# Altium footprint library PCB.PcbLib: 60 footprints (part 1 of 4)
Each footprint in its own frame and in the unit in brackets; x right, y up, seen from the top. Pads: shape width x height; smd on the part's side, far side on the other; paste and mask are expansions set on the pad; w line width, h text height; cw(c..) or ccw(c..) is an arc to the next point about the centre after c.
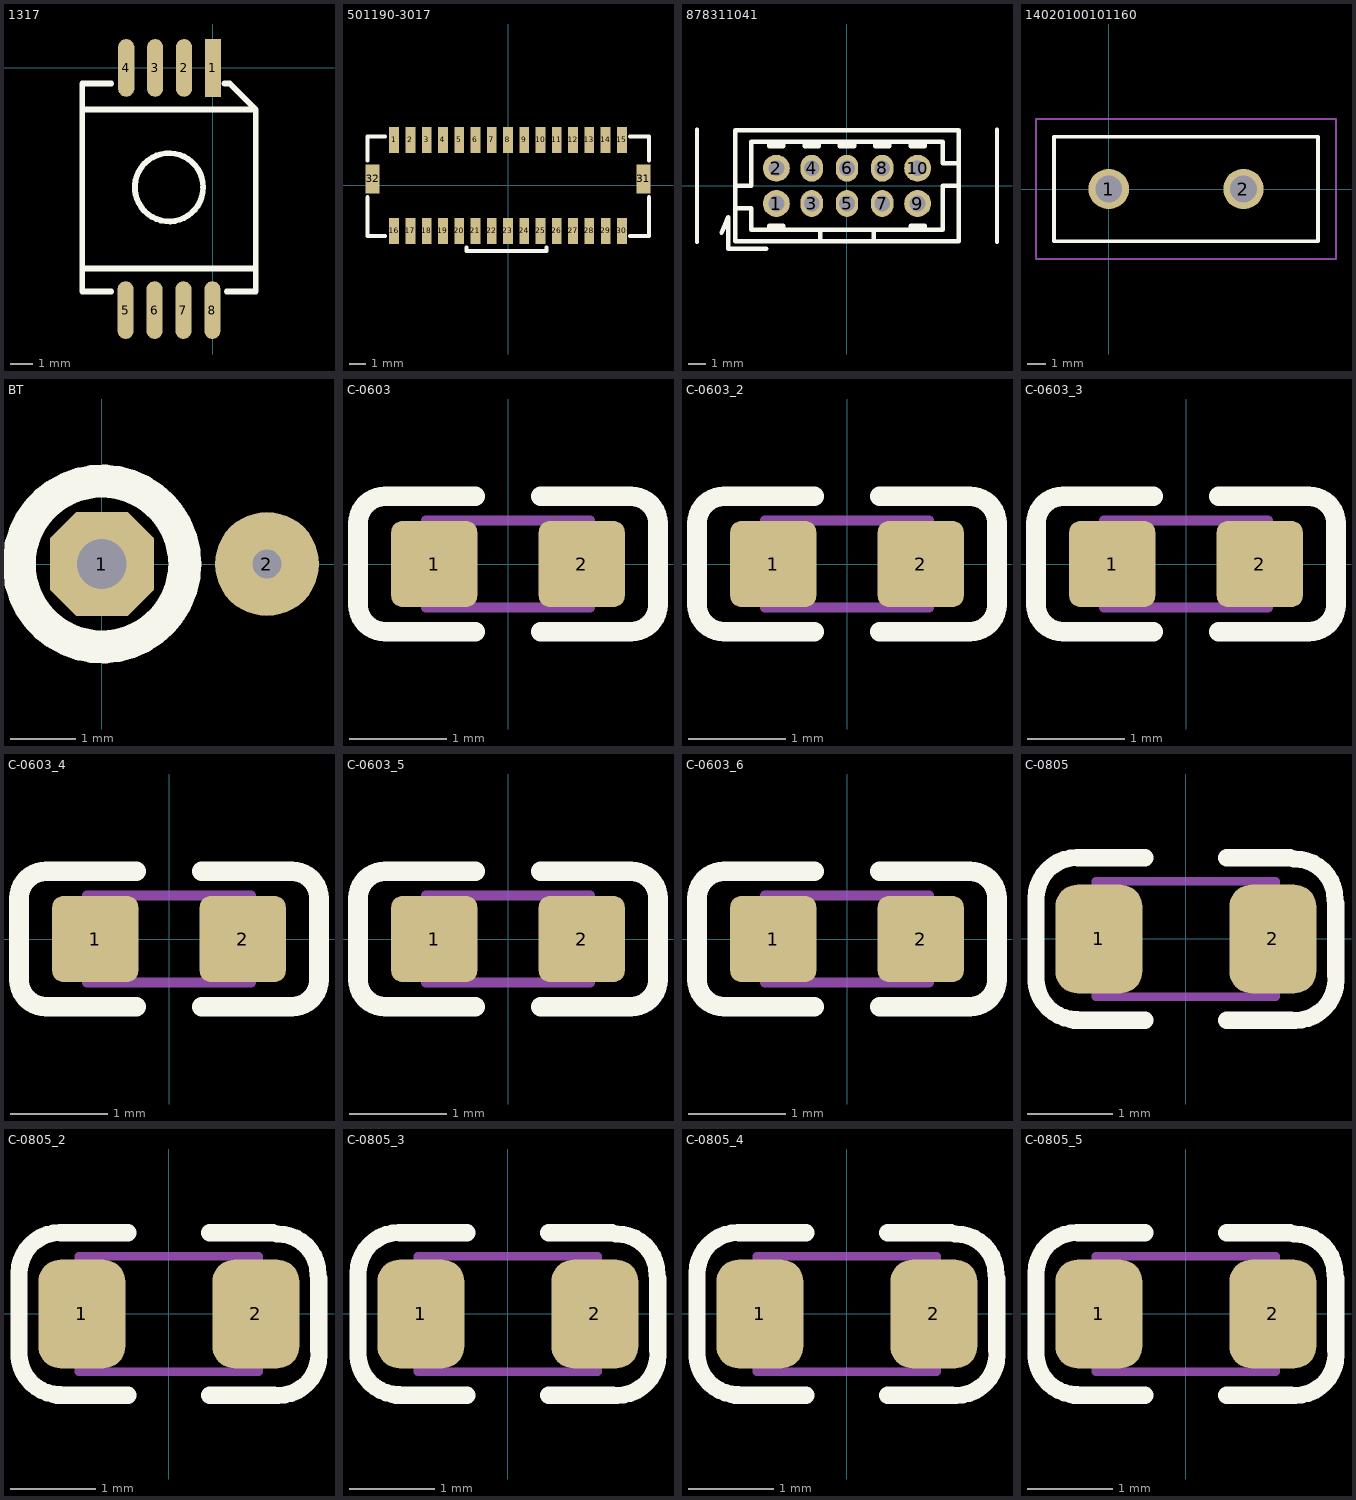
[diagram p0: the footprints below, top view; thin cyan lines are the x and y axes]

## 1317 [mil]
height 236.22
pads (8):
  rect 28x100 smd: 1(0,0)
  oval 28x100 smd: 2(-50,0) 3(-100,0) 4(-150,0) 5(-151,-419) 6(-101,-419) 7(-51,-419) 8(-1,-419)
Top Overlay:
  circle w10: c-76,-206.53 r59.05
  lines w10: -226,-347 74,-347 ; -226,-72 74,-72 ; -176,-387 -226,-387 -226,-27 -176,-27 ; 20,-27 29,-27 74,-72 ; 24,-387 74,-387 74,-72
3D body: height 177.17, standoff 0, extent -226,-347 74,-72
3D body: height 354.33, standoff 0, extent -138.59,-268.93 -20.94,-151.06

## 501190-3017 [mm]
pads (32):
  rect 0.6x1.6 smd paste+0 mask+0.05: 1(-7,2.8) 2(-6,2.8) 3(-5,2.8) 4(-4,2.8) 5(-3,2.8) 6(-2,2.8) 7(-1,2.8) 8(0,2.8) 9(1,2.8) 10(2,2.8) 11(3,2.8) 12(4,2.8) 13(5,2.8) 14(6,2.8) 15(7,2.8) 16(-7.001,-2.8) 17(-6.001,-2.8) 18(-5.001,-2.8) 19(-4.001,-2.8) 20(-3.001,-2.8) 21(-2.001,-2.8) 22(-1.001,-2.8) 23(-0.001,-2.8) 24(0.999,-2.8) 25(1.999,-2.8) 26(2.999,-2.8) 27(3.999,-2.8) 28(4.999,-2.8) 29(6.009,-2.794) 30(6.999,-2.8)
  rect 0.85x1.8 smd paste+0 mask+0.05: 31(8.32,0.4) 32(-8.32,0.4)
Top Overlay:
  lines w0.254: -8.636,-0.731 -8.636,-3.1 -7.568,-3.1 ; -8.636,1.531 -8.636,3 -7.568,3 ; -2.54,-3.81 -2.54,-4.041 2.36,-4.041 2.36,-3.81 ; 7.495,-3.1 8.664,-3.1 8.664,-0.731 ; 7.495,3 8.664,3 8.664,1.531
3D body "5011903017.stp": height 5.57, standoff 0, extent -8.65,-4.08 8.65,3.19

## 878311041 [mil]
pads (10):
  round 60 hole 35: 1(-157.48,-39.37) 2(-157.48,39.37) 9(157.48,-39.37) 10(157.48,39.37)
  oval 50x60 hole 35: 3(-78.74,-39.37) 4(-78.74,39.37) 5(0,-39.37) 6(0,39.37) 7(78.74,-39.37) 8(78.74,39.37)
Top Overlay:
  lines w7.87: -334.65,-125.98 -334.65,125.98 ; 334.65,-125.98 334.65,125.98
  lines w10: -280,-105 -265,-70 -265,-140 -180,-140 ; -249.02,-50 -213.58,-50 -213.58,-98.43 213.58,-98.43 213.58,0 249.02,0 ; -249.02,0 -213.58,0 -213.58,98.43 213.58,98.43 213.58,50 249.02,50 ; -173.23,-98.43 -173.23,-88.58 -141.73,-88.58 -141.73,-98.43 ; -173.23,98.43 -173.23,88.58 -141.73,88.58 -141.73,98.43 ; -94.49,98.43 -94.49,88.58 -62.99,88.58 -62.99,98.43 ; -60,-124.02 -60,-98.43 ; -15.75,98.43 -15.75,88.58 15.75,88.58 15.75,98.43 ; 60,-124.02 60,-98.43 ; 62.99,98.43 62.99,88.58 94.49,88.58 94.49,98.43 ; 141.73,-98.43 141.73,-88.58 173.23,-88.58 173.23,-98.43 ; 141.73,98.43 141.73,88.58 173.23,88.58 173.23,98.43 ; -249.02,-124.02 249.02,-124.02 249.02,124.02 -249.02,124.02 -249.02,-124.02
3D body "878311041.stp": height 252.36, standoff -98.03, extent -249.02,-124.02 249.02,124.02

## 14020100101160 [mm]
height 2
pads (2):
  round 2.25 hole 1.5: 1(0,0) 2(7.5,0)
Top Overlay:
  lines w0.2: -3.05,-2.9 11.65,-2.9 11.65,2.9 -3.05,2.9 -3.05,-2.9
Mechanical 13:
  lines w0.1: -3.05,-2.9 11.65,-2.9 11.65,2.9 -3.05,2.9 -3.05,-2.9
Mechanical 15:
  lines w0.1: -4.05,-3.9 12.65,-3.9 12.65,3.9 -4.05,3.9 -4.05,-3.9
3D body "14020100101160.stp": height 6.7, standoff -2.35, extent -3.04,-2.77 11.638,3.09

## BT [mm]
pads (2):
  oct 1.6x1.6 hole 0.762: 1(0,0)
  round 1.6 hole 0.45: 2(2.54,0)
Top Overlay:
  circle w0.508: c0,0 r1.275

## C-0603 [mil] "Chip Capacitor, 2-Leads, Body 1.60x0.80mm, IPC Medium Density"
height 19.68
pads (2):
  rrect25% 35x35 smd: 1(-30,0) 2(30,0)
Top Overlay:
  lines w8: -13.36,-27.56 -50,-27.56 cw(c-50,-16.54) -61.02,-16.54 -61.02,16.54 cw(c-50,16.54) -50,27.56 -13.36,27.56 ; 13.36,-27.56 50,-27.56 ccw(c50,-16.54) 61.02,-16.54 61.02,16.54 ccw(c50,16.54) 50,27.56 13.36,27.56
Mechanical 13:
  lines w3.94: -33.46,-17.72 -33.46,17.72 33.46,17.72 33.46,-17.72 -33.46,-17.72
3D body: height 19.68, standoff 0, extent -21.65,-17.72 21.65,17.72
3D body: height 19.68, standoff 0, extent -33.46,-17.72 -21.65,17.72
3D body: height 19.68, standoff 0, extent 21.65,-17.72 33.46,17.72

## C-0603_2 [mil]
pads (2):
  rrect25% 35x35 smd: 1(-30,0) 2(30,0)
Top Overlay:
  lines w8: -13.36,-27.56 -50,-27.56 cw(c-50,-16.54) -61.02,-16.54 -61.02,16.54 cw(c-50,16.54) -50,27.56 -13.36,27.56 ; 13.36,-27.56 50,-27.56 ccw(c50,-16.54) 61.02,-16.54 61.02,16.54 ccw(c50,16.54) 50,27.56 13.36,27.56
Mechanical 13:
  lines w3.94: -33.46,-17.72 33.46,-17.72 33.46,17.72 -33.46,17.72 -33.46,-17.72
3D body: height 19.68, standoff 0, extent 21.65,-17.72 33.46,17.72
3D body: height 19.68, standoff 0, extent -33.46,-17.72 -21.65,17.72
3D body: height 19.68, standoff 0, extent -21.65,-17.72 21.65,17.72

## C-0603_3 [mil]
pads (2):
  rrect25% 35x35 smd: 1(-30,0) 2(30,0)
Top Overlay:
  lines w8: -13.36,-27.56 -50,-27.56 cw(c-50,-16.54) -61.02,-16.54 -61.02,16.54 cw(c-50,16.54) -50,27.56 -13.36,27.56 ; 13.36,-27.56 50,-27.56 ccw(c50,-16.54) 61.02,-16.54 61.02,16.54 ccw(c50,16.54) 50,27.56 13.36,27.56
Mechanical 13:
  lines w3.94: -33.46,-17.72 33.46,-17.72 33.46,17.72 -33.46,17.72 -33.46,-17.72
3D body: height 19.68, standoff 0, extent 21.65,-17.72 33.46,17.72
3D body: height 19.68, standoff 0, extent -33.46,-17.72 -21.65,17.72
3D body: height 19.68, standoff 0, extent -21.65,-17.72 21.65,17.72

## C-0603_4 [mil]
pads (2):
  rrect25% 35x35 smd: 1(-30,0) 2(30,0)
Top Overlay:
  lines w8: -13.36,-27.56 -50,-27.56 cw(c-50,-16.54) -61.02,-16.54 -61.02,16.54 cw(c-50,16.54) -50,27.56 -13.36,27.56 ; 13.36,-27.56 50,-27.56 ccw(c50,-16.54) 61.02,-16.54 61.02,16.54 ccw(c50,16.54) 50,27.56 13.36,27.56
Mechanical 13:
  lines w3.94: -33.46,-17.72 -33.46,17.72 33.46,17.72 33.46,-17.72 -33.46,-17.72
3D body: height 19.68, standoff 0, extent -21.65,-17.72 21.65,17.72
3D body: height 19.68, standoff 0, extent -33.46,-17.72 -21.65,17.72
3D body: height 19.68, standoff 0, extent 21.65,-17.72 33.46,17.72

## C-0603_5 [mil]
pads (2):
  rrect25% 35x35 smd: 1(-30,0) 2(30,0)
Top Overlay:
  lines w8: -13.36,-27.56 -50,-27.56 cw(c-50,-16.54) -61.02,-16.54 -61.02,16.54 cw(c-50,16.54) -50,27.56 -13.36,27.56 ; 13.36,-27.56 50,-27.56 ccw(c50,-16.54) 61.02,-16.54 61.02,16.54 ccw(c50,16.54) 50,27.56 13.36,27.56
Mechanical 13:
  lines w3.94: -33.46,-17.72 -33.46,17.72 33.46,17.72 33.46,-17.72 -33.46,-17.72
3D body: height 19.68, standoff 0, extent -21.65,-17.72 21.65,17.72
3D body: height 19.68, standoff 0, extent -33.46,-17.72 -21.65,17.72
3D body: height 19.68, standoff 0, extent 21.65,-17.72 33.46,17.72

## C-0603_6 [mil]
pads (2):
  rrect25% 35x35 smd: 1(-30,0) 2(30,0)
Top Overlay:
  lines w8: -13.36,-27.56 -50,-27.56 cw(c-50,-16.54) -61.02,-16.54 -61.02,16.54 cw(c-50,16.54) -50,27.56 -13.36,27.56 ; 13.36,-27.56 50,-27.56 ccw(c50,-16.54) 61.02,-16.54 61.02,16.54 ccw(c50,16.54) 50,27.56 13.36,27.56
Mechanical 13:
  lines w3.94: -33.46,-17.72 -33.46,17.72 33.46,17.72 33.46,-17.72 -33.46,-17.72
3D body: height 19.68, standoff 0, extent -21.65,-17.72 21.65,17.72
3D body: height 19.68, standoff 0, extent -33.46,-17.72 -21.65,17.72
3D body: height 19.68, standoff 0, extent 21.65,-17.72 33.46,17.72

## C-0805 [mil] "Chip Capacitor, 2-Leads, Body 2.00x1.25mm, IPC Medium Density"
height 49.21
pads (2):
  rrect50% 40x50 smd: 1(-40,0) 2(40,0)
Top Overlay:
  lines w7.87: -68.91,18.62 cw(c-50.12,18.62) -50.12,37.41 ; -68.87,-18.33 ccw(c-50.09,-18.33) -50.09,-37.12 ; 49.84,36.85 cw(c49.84,18.06) 68.63,18.06 ; 50.23,-37.41 ccw(c50.23,-18.63) 69.01,-18.63
  lines w8: -68.9,-19.96 -68.9,17.92 ; -51.46,-37.4 -18.78,-37.4 ; -49.42,37.4 -18.78,37.4 ; 18.78,-37.4 48.27,-37.4 ; 18.78,37.4 47.81,37.4 ; 68.9,-16.78 68.9,16.32
Mechanical 13:
  lines w3.94: -41.34,-26.57 -41.34,26.58 41.34,26.58 41.34,-26.57 -41.34,-26.57
3D body: height 19.68, standoff 0, extent -27.56,-26.57 27.56,26.57
3D body: height 19.68, standoff 0, extent -41.34,-26.57 -27.56,26.57
3D body: height 19.68, standoff 0, extent 27.56,-26.57 41.34,26.57

## C-0805_2 [mil]
pads (2):
  rrect50% 40x50 smd: 1(-40,0) 2(40,0)
Top Overlay:
  lines w7.87: -68.91,18.62 cw(c-50.12,18.62) -50.12,37.41 ; -68.87,-18.33 ccw(c-50.09,-18.33) -50.09,-37.12 ; 49.84,36.85 cw(c49.84,18.06) 68.63,18.06 ; 50.23,-37.41 ccw(c50.23,-18.63) 69.01,-18.63
  lines w8: -68.9,-19.96 -68.9,17.92 ; -51.46,-37.4 -18.78,-37.4 ; -49.42,37.4 -18.78,37.4 ; 18.78,-37.4 48.27,-37.4 ; 18.78,37.4 47.81,37.4 ; 68.9,-16.78 68.9,16.32
Mechanical 13:
  lines w3.94: -41.34,-26.57 -41.34,26.58 41.34,26.58 41.34,-26.57 -41.34,-26.57
3D body: height 19.68, standoff 0, extent -27.56,-26.57 27.56,26.57
3D body: height 19.68, standoff 0, extent -41.34,-26.57 -27.56,26.57
3D body: height 19.68, standoff 0, extent 27.56,-26.57 41.34,26.57

## C-0805_3 [mil]
pads (2):
  rrect50% 40x50 smd: 1(-40,0) 2(40,0)
Top Overlay:
  lines w7.87: -68.91,18.62 cw(c-50.12,18.62) -50.12,37.41 ; -68.87,-18.33 ccw(c-50.09,-18.33) -50.09,-37.12 ; 49.84,36.85 cw(c49.84,18.06) 68.63,18.06 ; 50.23,-37.41 ccw(c50.23,-18.63) 69.01,-18.63
  lines w8: -68.9,-19.96 -68.9,17.92 ; -51.46,-37.4 -18.78,-37.4 ; -49.42,37.4 -18.78,37.4 ; 18.78,-37.4 48.27,-37.4 ; 18.78,37.4 47.81,37.4 ; 68.9,-16.78 68.9,16.32
Mechanical 13:
  lines w3.94: -41.34,-26.57 41.34,-26.57 41.34,26.58 -41.34,26.58 -41.34,-26.57
3D body: height 19.68, standoff 0, extent 27.56,-26.57 41.34,26.57
3D body: height 19.68, standoff 0, extent -41.34,-26.57 -27.56,26.57
3D body: height 19.68, standoff 0, extent -27.56,-26.57 27.56,26.57

## C-0805_4 [mil]
pads (2):
  rrect50% 40x50 smd: 1(-40,0) 2(40,0)
Top Overlay:
  lines w7.87: -68.91,18.62 cw(c-50.12,18.62) -50.12,37.41 ; -68.87,-18.33 ccw(c-50.09,-18.33) -50.09,-37.12 ; 49.84,36.85 cw(c49.84,18.06) 68.63,18.06 ; 50.23,-37.41 ccw(c50.23,-18.63) 69.01,-18.63
  lines w8: -68.9,-19.96 -68.9,17.92 ; -51.46,-37.4 -18.78,-37.4 ; -49.42,37.4 -18.78,37.4 ; 18.78,-37.4 48.27,-37.4 ; 18.78,37.4 47.81,37.4 ; 68.9,-16.78 68.9,16.32
Mechanical 13:
  lines w3.94: -41.34,-26.57 41.34,-26.57 41.34,26.58 -41.34,26.58 -41.34,-26.57
3D body: height 19.68, standoff 0, extent 27.56,-26.57 41.34,26.57
3D body: height 19.68, standoff 0, extent -41.34,-26.57 -27.56,26.57
3D body: height 19.68, standoff 0, extent -27.56,-26.57 27.56,26.57

## C-0805_5 [mil]
pads (2):
  rrect50% 40x50 smd: 1(-40,0) 2(40,0)
Top Overlay:
  lines w7.87: -68.91,18.62 cw(c-50.12,18.62) -50.12,37.41 ; -68.87,-18.33 ccw(c-50.09,-18.33) -50.09,-37.12 ; 49.84,36.85 cw(c49.84,18.06) 68.63,18.06 ; 50.23,-37.41 ccw(c50.23,-18.63) 69.01,-18.63
  lines w8: -68.9,-19.96 -68.9,17.92 ; -51.46,-37.4 -18.78,-37.4 ; -49.42,37.4 -18.78,37.4 ; 18.78,-37.4 48.27,-37.4 ; 18.78,37.4 47.81,37.4 ; 68.9,-16.78 68.9,16.32
Mechanical 13:
  lines w3.94: -41.34,-26.57 41.34,-26.57 41.34,26.58 -41.34,26.58 -41.34,-26.57
3D body: height 19.68, standoff 0, extent 27.56,-26.57 41.34,26.57
3D body: height 19.68, standoff 0, extent -41.34,-26.57 -27.56,26.57
3D body: height 19.68, standoff 0, extent -27.56,-26.57 27.56,26.57